# EAGLE library part RAHHD19TR (library Signetics)
HDMI, Displayport & DVI Connectors HDMI Type A Rcpt Horizontal SMT Source: Datasheet <https://www.switchcraft.com/Drawings/RAHHD19TR_CD.pdf>
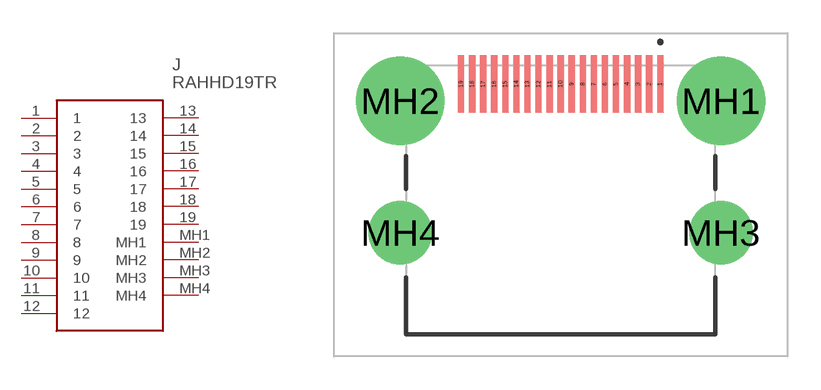
[diagram p21: symbol with the pads of RAHHD19TR; footprint RAHHD19TR]

Designator prefix J

## RAHHD19TR (DESCRIPTION: HDMI, Displayport & DVI Connectors HDMI Type A Rcpt Horizontal SMT; HEIGHT: 6.68mm; MANUFACTURER_NAME: Switchcraft; MANUFACTURER_PART_NUMBER: RAHHD19TR; MOUSER_PART_NUMBER: 502-RAHHD19TR; MOUSER_PRICE-STOCK: https://www.mouser.co.uk/ProductDetail/Switchcraft/RAHHD19TR?qs=eP2BKZSCXI4eVw73CI8QnQ%3D%3D)  [RAHHD19TR]
1  1
2  2
3  3
4  4
5  5
6  6
7  7
8  8
9  9
10  10
11  11
12  12
13  13
14  14
15  15
16  16
17  17
18  18
19  19
MH1  MH1
MH2  MH2
MH3  MH3
MH4  MH4

## Footprint RAHHD19TR (pad centres in mm)
RAHHD19TR
smd 0.28 x 2.6: 1 4.5,5.25; 2 4,5.25; 3 3.5,5.25; 4 3,5.25; 5 2.5,5.25; 6 2,5.25; 7 1.5,5.25; 8 1,5.25; 9 0.5,5.25; 10 0,5.25; 11 -0.5,5.25; 12 -1,5.25; 13 -1.5,5.25; 14 -2,5.25; 15 -2.5,5.25; 16 -3,5.25; 17 -3.5,5.25; 18 -4,5.25; 19 -4.5,5.25
drill 2.66 pad 3.99: MH1 7.25,4.49; MH2 -7.25,4.49
drill 1.92 pad 2.88: MH3 7.25,-1.47; MH4 -7.25,-1.47